# EAGLE library part GR10J (library mynixies)
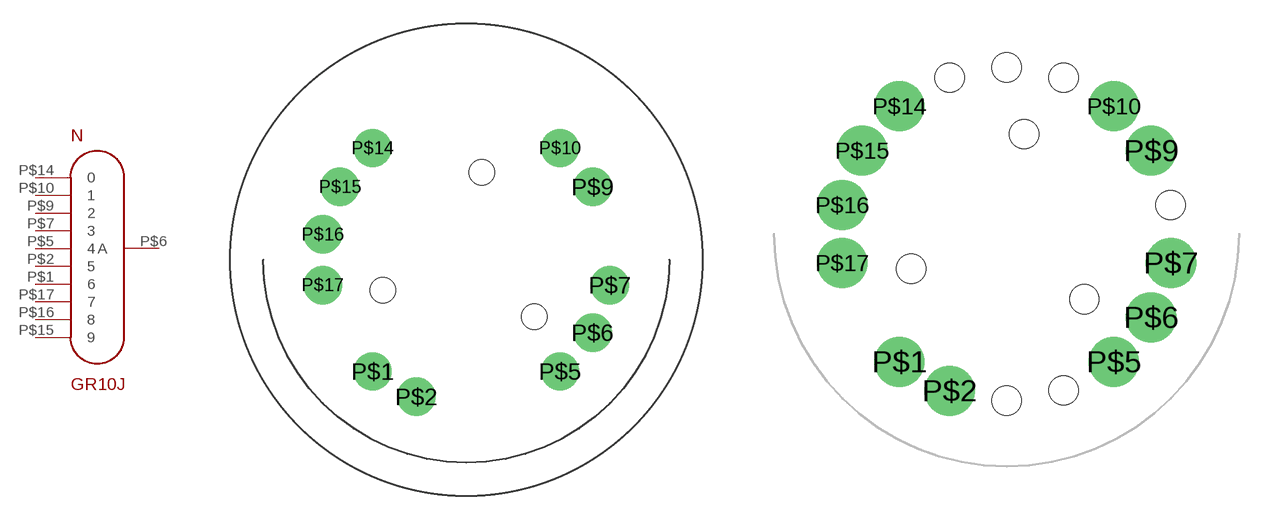
[diagram p9: symbol with the pads of B17A-DSUB; footprints B17A-DSUB, GR10J-8331]

Designator prefix N

## GR10JB17A  [B17A-DSUB]
P$1  6  pas
P$2  5  pas
P$5  4  pas
P$6  A  pas
P$7  3  pas
P$9  2  pas
P$10  1  pas
P$14  0  pas
P$15  9  pas
P$16  8  pas
P$17  7  pas

## GR10J  [GR10J-8331]
Pads as for B17A-DSUB

## Footprint B17A-DSUB (pad centres in mm)
drill 1.6: P$1 -5.861,-6.985; P$2 -3.119,-8.569; P$5 5.861,-6.985; P$6 7.897,-4.559; P$7 8.98,-1.583; P$9 7.897,4.559; P$10 5.861,6.985; P$14 -5.861,6.985; P$15 -7.897,4.559; P$16 -8.98,1.583; P$17 -8.98,-1.583
hole 1.6 at 0.964,5.466
hole 1.6 at -5.215,-1.898
hole 1.6 at 4.251,-3.567

## Footprint GR10J-8331 (pad centres in mm)
drill 1.829: P$1 -5.861,-6.985; P$2 -3.119,-8.569; P$5 5.861,-6.985; P$6 7.897,-4.559; P$7 8.98,-1.583; P$9 7.897,4.559; P$10 5.861,6.985; P$14 -5.861,6.985; P$15 -7.897,4.559; P$16 -8.98,1.583; P$17 -8.98,-1.583
hole 1.6 at 0.964,5.466
hole 1.6 at -5.215,-1.898
hole 1.6 at 4.251,-3.567
hole 1.6 at 8.962,1.58
hole 1.6 at 3.112,8.551
hole 1.6 at 0,9.1
hole 1.6 at -3.112,8.551
hole 1.6 at 0,-9.1
hole 1.6 at 3.112,-8.551